# Altium footprint library CN_SCKT_Samtec_SLW-140-01-G-D.PcbLib: 1 footprints
Each footprint in its own frame and in the unit in brackets; x right, y up, seen from the top. Pads: shape width x height; smd on the part's side, far side on the other; paste and mask are expansions set on the pad; w line width, h text height; cw(c..) or ccw(c..) is an arc to the next point about the centre after c.
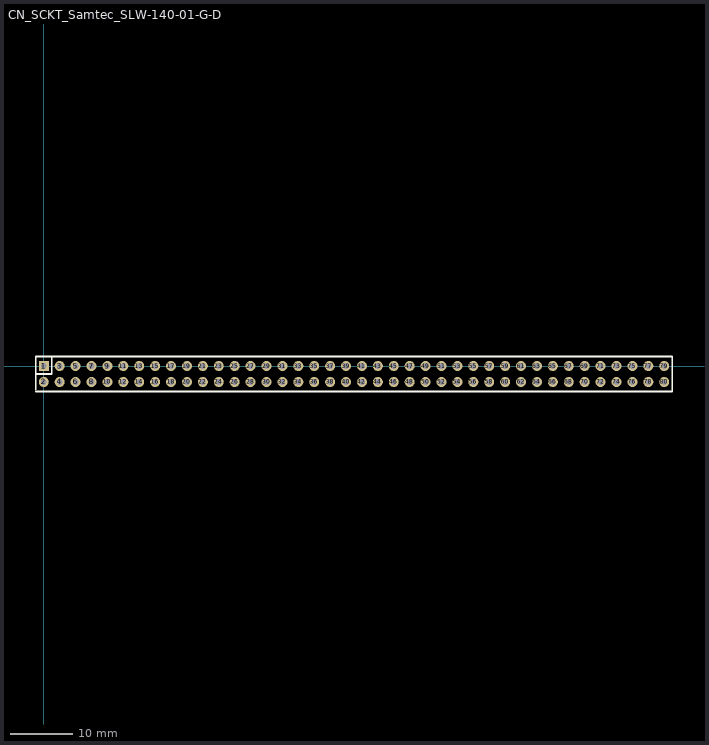
[diagram p0: the footprint, top view; thin cyan lines are the x and y axes]

## CN_SCKT_Samtec_SLW-140-01-G-D [mm]
pads (80):
  rect 1.6x1.6 hole 0.9: 1(0,0)
  round 1.6 hole 0.9: 2(0,-2.54) 3(2.54,0) 4(2.54,-2.54) 5(5.08,0) 6(5.08,-2.54) 7(7.62,0) 8(7.62,-2.54) 9(10.16,0) 10(10.16,-2.54) 11(12.7,0) 12(12.7,-2.54) 13(15.24,0) 14(15.24,-2.54) 15(17.78,0) 16(17.78,-2.54) 17(20.32,0) 18(20.32,-2.54) 19(22.86,0) 20(22.86,-2.54) 21(25.4,0) 22(25.4,-2.54) 23(27.94,0) 24(27.94,-2.54) 25(30.48,0) 26(30.48,-2.54) 27(33.02,0) 28(33.02,-2.54) 29(35.56,0) 30(35.56,-2.54) 31(38.1,0) 32(38.1,-2.54) 33(40.64,0) 34(40.64,-2.54) 35(43.18,0) 36(43.18,-2.54) 37(45.72,0) 38(45.72,-2.54) 39(48.26,0) 40(48.26,-2.54) 41(50.8,0) 42(50.8,-2.54) 43(53.34,0) 44(53.34,-2.54) 45(55.88,0) 46(55.88,-2.54) 47(58.42,0) 48(58.42,-2.54) 49(60.96,0) 50(60.96,-2.54) 51(63.5,0) 52(63.5,-2.54) 53(66.04,0) 54(66.04,-2.54) 55(68.58,0) 56(68.58,-2.54) 57(71.12,0) 58(71.12,-2.54) 59(73.66,0) 60(73.66,-2.54) 61(76.2,0) 62(76.2,-2.54) 63(78.74,0) 64(78.74,-2.54) 65(81.28,0) 66(81.28,-2.54) 67(83.82,0) 68(83.82,-2.54) 69(86.36,0) 70(86.36,-2.54) 71(88.9,0) 72(88.9,-2.54) 73(91.44,0) 74(91.44,-2.54) 75(93.98,0) 76(93.98,-2.54) 77(96.52,0) 78(96.52,-2.54) 79(99.06,0) 80(99.06,-2.54)
Top Overlay:
  lines w0.254: -1.27,-4.064 100.33,-4.064 100.33,1.524 -1.27,1.524 -1.27,-3.81 ; -1.27,-1.524 -1.27,-1.27 1.27,-1.27 1.27,1.524
3D body: height 4.57, standoff -2.92, extent -1.27,-3.746 100.33,1.207